# Altium footprint library MT_Device.PcbLib: 67 footprints (part 2 of 5)
Each footprint in its own frame and in the unit in brackets; x right, y up, seen from the top. Pads: shape width x height; smd on the part's side, far side on the other; paste and mask are expansions set on the pad; w line width, h text height; cw(c..) or ccw(c..) is an arc to the next point about the centre after c.
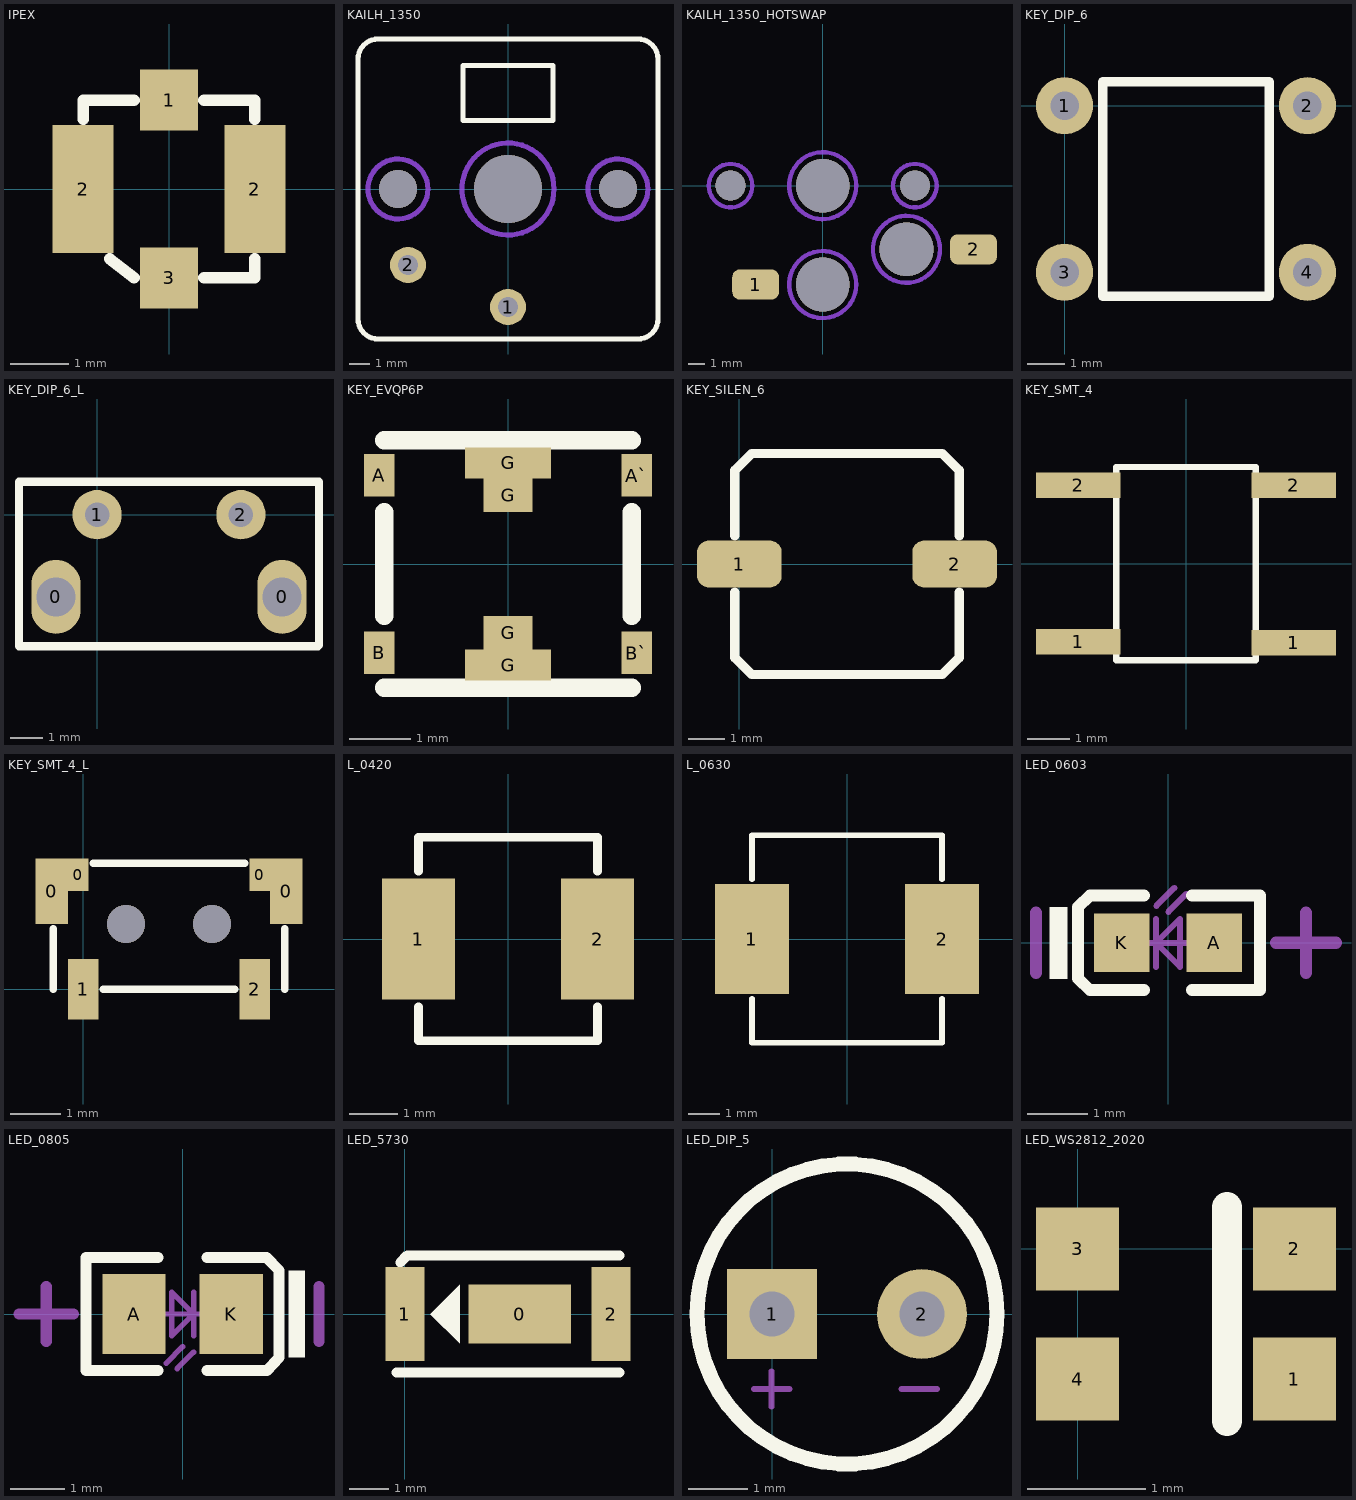
[diagram p1: the footprints below, top view; thin cyan lines are the x and y axes]

## IPEX [mm]
pads (4):
  rect 1x1.05 smd: 1(0,1.525) 3(0,-1.525)
  rect 1.05x2.2 smd: 2(-1.475,0) 2(1.475,0)
Top Overlay:
  lines w0.2: -1.475,1.2 -1.475,1.525 -0.6,1.525 ; -1.015,-1.2 -0.6,-1.525 ; 0.6,-1.525 1.475,-1.525 1.475,-1.2 ; 0.6,1.525 1.475,1.525 1.475,1.2
3D body "ipex_pcb_4pin.step": height 1.25, standoff 0, extent -1.5,-1.55 1.5,1.55

## KAILH_1350 [mm]
pads (2):
  round 1.8 hole 1: 1(0,-5.9) 2(-5,-3.8)
via 0,0 diameter 3.4 hole 3.4
via 5.5,0 diameter 1.9 hole 1.9
via -5.5,0 diameter 1.9 hole 1.9
Top Layer keep-out:
  circle w0.254: c5.5,0 r1.5
  circle w0.254: c0,0 r2.3
  circle w0.254: c-5.5,0 r1.5
Bottom Layer keep-out:
  circle w0.254: c0,0 r2.3
  circle w0.254: c5.5,0 r1.5
  circle w0.254: c-5.5,0 r1.5
Top Overlay:
  lines w0.254: -7.5,-6.5 ccw(c-6.5,-6.5) -6.5,-7.5 6.5,-7.5 ccw(c6.5,-6.5) 7.5,-6.5 7.5,6.5 ccw(c6.5,6.5) 6.5,7.5 -6.5,7.5 ccw(c-6.5,6.5) -7.5,6.5 -7.5,-6.5 ; -2.25,3.425 -2.25,6.175 2.25,6.175 2.25,3.425 -2.25,3.425
3D body "KailhLowProfileSwitch.STEP": height 8, standoff -3, extent -7.5,-7.5 7.5,7.5

## KAILH_1350_HOTSWAP [mm]
pads (2):
  rrect50% 2.8x1.8 smd: 1(-4,-5.9) 2(9,-3.8)
via 5,-3.8 diameter 3.2 hole 3.2
via 0,-5.9 diameter 3.2 hole 3.2
via 0,0 diameter 3.2 hole 3.2
via -5.5,0 diameter 1.8 hole 1.8
via 5.5,0 diameter 1.8 hole 1.8
Top Layer keep-out:
  circle w0.254: c-5.5,0 r1.3
  circle w0.254: c0,0 r2
  circle w0.254: c5.5,0 r1.3
  circle w0.254: c0,-5.9 r2
  circle w0.254: c5,-3.8 r2
Bottom Layer keep-out:
  circle w0.254: c0,0 r2
  circle w0.254: c-5.5,0 r1.3
  circle w0.254: c5.5,0 r1.3
  circle w0.254: c0,-5.9 r2
  circle w0.254: c5,-3.8 r2
Bottom Overlay:
  lines w0.254: -7.5,-6.5 ccw(c-6.5,-6.5) -6.5,-7.5 6.5,-7.5 ccw(c6.5,-6.5) 7.5,-6.5 7.5,6.5 ccw(c6.5,6.5) 6.5,7.5 -6.5,7.5 ccw(c-6.5,6.5) -7.5,6.5 -7.5,-6.5 ; -2.25,3.425 2.25,3.425 2.25,6.175 -2.25,6.175 -2.25,3.425
3D body "PG1350-socket.STEP": height 2.02, standoff -1.07, extent -3.917,-8.256 8.983,-1.406

## KEY_DIP_6 [mil]
pads (4):
  round 60 hole 30: 1(0,0) 2(255,0) 3(0,-175) 4(255,-175)
Top Overlay:
  lines w10: 40,-200 40,25 215,25 215,-200 40,-200
3D body "Push Button 6x6.STEP": height 267.72, standoff -208.58, extent -30.35,-205.51 285.07,30.71

## KEY_DIP_6_L [mil]
pads (4):
  oval 60x90 hole 47.24: 0(-50,-100) 0(225,-100)
  round 60 hole 30: 1(0,0) 2(175,0)
Top Overlay:
  lines w10: -95,-160 268.87,-160 270,-158.87 270,40 -95,40 -95,-150 -95,-160
3D body "SW-DTSA-63K-V.stp": height 283.46, standoff -137.8, extent -79.53,-157.28 255.12,230.51

## KEY_EVQP6P [mm]
pads (8):
  rect 0.5x0.7 smd: A(-2.1,1.45) A`(2.1,1.45) B(-2.1,-1.45) B`(2.1,-1.45)
  rect 1.4x0.5 smd: G(0,-1.65) G(0,1.65)
  rect 0.8x0.55 smd: G(0,-1.125) G(0,1.125)
Top Overlay:
  lines w0.3: -2.02,-2.02 0,-2.02 2.02,-2.02 ; -2.02,-0.848 -2.02,0.846 ; -2.02,2.02 0,2.02 2.02,2.02 ; 2.02,-0.846 2.02,0.848
3D body "User Library-EVQP6UB55.STEP": height 0.58, standoff 0, extent -2.149,-2.044 2.149,2.045

## KEY_SILEN_6 [mm]
pads (2):
  rrect50% 2.3x1.27 smd: 1(0,0) 2(5.842,0)
Top Overlay:
  lines w0.254: -0.127,-0.762 -0.127,-2.54 0.333,-3 5.509,-3 5.969,-2.54 5.969,-0.762 ; -0.127,0.762 -0.127,2.54 0.333,3 5.509,3 5.969,2.54 5.969,0.762
3D body "静音按键.STEP": height 5, standoff 0, extent -0.24,-3 6.06,3

## KEY_SMT_4 [mm]
pads (4):
  rect 2x0.6 smd: 1(-2.55,-1.85) 1(2.55,-1.87) 2(-2.55,1.85) 2(2.55,1.85)
Top Overlay:
  lines w0.152: -1.651,-2.286 -1.651,2.286 1.651,2.286 1.651,-2.286 -1.651,-2.286
3D body "tact_switch_3mm.stp": height 3, standoff 0, extent -3.215,-2.62 3.185,2.58

## KEY_SMT_4_L [mm]
pads (6):
  rect 0.65x1.3 smd: 0(-0.625,1.95) 0(4.025,1.95)
  rect 0.4x0.65 smd: 0(-0.1,2.275) 0(3.5,2.275)
  rect 0.6x1.2 smd: 1(0,0) 2(3.4,0)
via 0.85,1.3 diameter 0.75 hole 0.75
via 2.55,1.3 diameter 0.75 hole 0.75
Top Overlay:
  lines w0.15: -0.6,0 -0.6,1.2 ; 0.2,2.5 3.2,2.5 ; 0.4,0 3,0 ; 4,0 4,1.2
3D body "1TS003B.step": height 1.9, standoff -0.4, extent -0.66,-0.26 4.04,3.39

## L_0420 [mm]
pads (2):
  rect 1.5x2.5 smd: 1(-1.85,0) 2(1.85,0)
Top Overlay:
  lines w0.178: -1.85,-1.4 -1.85,-2.1 1.85,-2.1 1.85,-1.4 ; -1.85,1.4 -1.85,2.1 1.85,2.1 1.85,1.4
3D body "0420.stp": height 2.12, standoff -0.02, extent -2.24,-2.064 2.24,2.064

## L_0630 [mm]
pads (2):
  rect 2.35x3.5 smd: 1(-3.025,0) 2(3.025,0)
Top Overlay:
  lines w0.178: -3.025,-1.9 -3.025,-3.3 3.025,-3.3 3.025,-1.9 ; -3.025,1.9 -3.025,3.3 3.025,3.3 3.025,1.9
3D body "Inductor_SMD_AMPLF_0630.STEP": height 3.01, standoff 0, extent -3.65,-3.35 3.65,3.35

## LED_0603 [mm]
pads (2):
  rect 0.93x0.98 smd: A(0.77,0) K(-0.77,0)
Top Overlay:
  rectangle: -1.975,-0.6 -1.675,0.6
  lines w0.2: -0.4,-0.79 -1.3,-0.79 -1.5,-0.597 -1.5,0.597 -1.3,0.79 -0.4,0.79 ; 0.4,-0.79 1.535,-0.79 1.535,0.79 0.4,0.79
Mechanical 13:
  lines w0.1: -0.4,0 0.4,0 ; -0.2,-0.4 -0.2,0.4 ; -0.195,0.617 0.105,0.917 ; 0.005,0.517 0.305,0.817 ; -0.2,0 0.2,-0.4 0.2,0.4 -0.2,0
Mechanical 15:
  lines w0.203: -2.2,-0.5 -2.2,0.5 ; 1.8,0 2.8,0 ; 2.3,-0.5 2.3,0.5
3D body "User Library-LED_0603_R.STEP": height 0.6, standoff 0, extent -0.8,-0.4 0.8,0.4

## LED_0805 [mm]
pads (2):
  rect 1.16x1.47 smd: A(-0.89,0) K(0.89,0)
Top Overlay:
  region: 2.245,0.8 1.945,0.8 1.945,-0.8 2.245,-0.8
  lines w0.2: -0.45,-1.035 -1.77,-1.035 -1.77,1.035 -0.45,1.035 ; 0.45,-1.035 1.55,-1.035 1.77,-0.8 1.77,0.8 1.535,1.035 0.45,1.035
Mechanical 13:
  lines w0.1: -0.4,0 0.4,0 ; -0.3,-0.9 0,-0.6 ; -0.1,-1 0.2,-0.7 ; 0.2,-0.4 0.2,0.4 ; -0.2,-0.4 0.2,0 -0.2,0.4 -0.2,-0.4
Mechanical 15:
  lines w0.203: -3,0 -2,0 ; -2.5,-0.5 -2.5,0.5 ; 2.5,-0.5 2.5,0.5
3D body "User Library-led_0805.step": height 1.1, standoff 0, extent -1.01,-0.625 1.01,0.625

## LED_5730 [mm]
pads (3):
  rect 2.63x1.52 smd: 0(2.935,0)
  rect 1x2.4 smd: 1(0,0) 2(5.27,0)
Top Overlay:
  region: 1.4,0.75 1.4,-0.75 0.65,0
  lines w0.254: -0.215,-1.5 2.635,-1.5 5.485,-1.5 ; -0.12,1.32 0.06,1.5 2.635,1.5 5.485,1.5
3D body "LED 5730.stp": height 0.81, standoff 0.01, extent -0.22,-1.5 5.48,1.5

## LED_DIP_5 [mil]
pads (2):
  rect 60x60 hole 30: 1(0,0)
  round 60 hole 30: 2(100,0)
Top Overlay:
  circle w10: c50,0 r100
Mechanical 15:
  lines w3.94: -12.05,-50 11.57,-50 ; -0.24,-61.81 -0.24,-38.19 ; 86.38,-50 110,-50

## LED_WS2812_2020 [mm]
pads (4):
  rect 0.7x0.7 smd: 1(1.83,-1.1) 2(1.83,0) 3(0,0) 4(0,-1.1)
Top Overlay:
  lines w0.254: 1.26,-1.45 1.26,0.35
3D body "WS2812-2020.STEP": height 0.84, standoff -0.02, extent -0.18,-1.55 2.02,0.45